# EAGLE library part HD44780LCD (library Water Use)
NEWHAVEN NHD-0420H1Z-FL-GBW-33V3 Character Display Standard Character Display Size 20x40
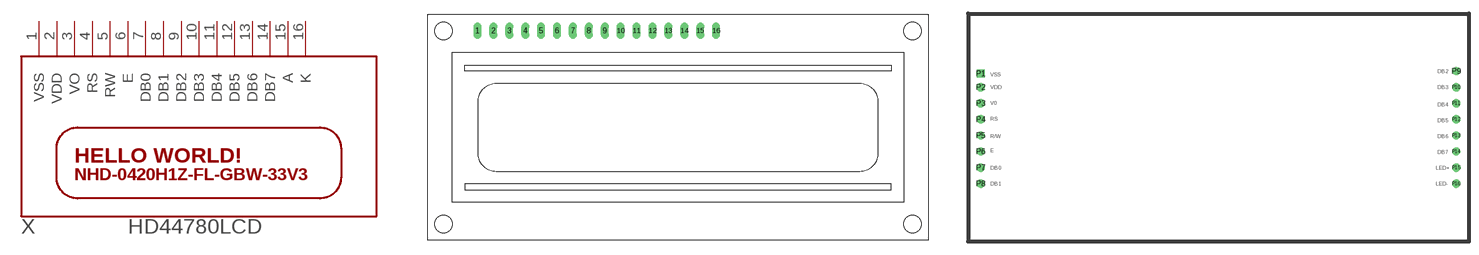
[diagram p0: symbol with the pads of LCD1602; footprints LCD1602, NEWHAVEN-LCD]

Designator prefix X

## HD44780LCD-1602  [LCD1602]
1  VSS  sup
2  VDD  sup
3  VO  in
4  RS  in
5  RW  in
6  E  in
7  DB0
8  DB1
9  DB2
10  DB3
11  DB4
12  DB5
13  DB6
14  DB7
15  A  in
16  K  in

## HD44780LCD (DIGI-PART-NO: NHD-0420H1Z-FL-GBW-33V3-ND)  [NEWHAVEN-LCD]
P1  VSS  sup
P2  VDD  sup
P3  VO  in
P4  RS  in
P5  RW  in
P6  E  in
P7  DB0
P8  DB1
P9  DB2
P10  DB3
P11  DB4
P12  DB5
P13  DB6
P14  DB7
P15  A  in
P16  K  in

## Footprint LCD1602 (pad centres in mm)
drill 0.8 long: 1 8,33.46; 2 10.54,33.46; 3 13.08,33.46; 4 15.62,33.46; 5 18.16,33.46; 6 20.7,33.46; 7 23.24,33.46; 8 25.78,33.46; 9 28.32,33.46; 10 30.86,33.46; 11 33.4,33.46; 12 35.94,33.46; 13 38.48,33.46; 14 41.02,33.46; 15 43.56,33.46; 16 46.1,33.46
hole 2.8 at 2.54,2.54
hole 2.8 at 2.54,33.46
hole 2.8 at 77.46,33.46
hole 2.8 at 77.46,2.54

## Footprint NEWHAVEN-LCD (pad centres in mm)
drill 0.8 square: P1 -37.5,8.5
drill 0.8: P2 -37.5,6.35; P3 -37.5,3.81; P4 -37.5,1.27; P5 -37.5,-1.27; P6 -37.5,-3.81; P7 -37.5,-6.35; P8 -37.5,-8.89; P9 37.5,8.89; P10 37.5,6.35; P11 37.5,3.81; P12 37.5,1.27; P13 37.5,-1.27; P14 37.5,-3.81; P15 37.5,-6.35; P16 37.5,-8.89